# Altium footprint library 杂项库.PcbLib: 585 footprints (part 15 of 37)
Each footprint in its own frame and in the unit in brackets; x right, y up, seen from the top. Pads: shape width x height; smd on the part's side, far side on the other; paste and mask are expansions set on the pad; w line width, h text height; cw(c..) or ccw(c..) is an arc to the next point about the centre after c.
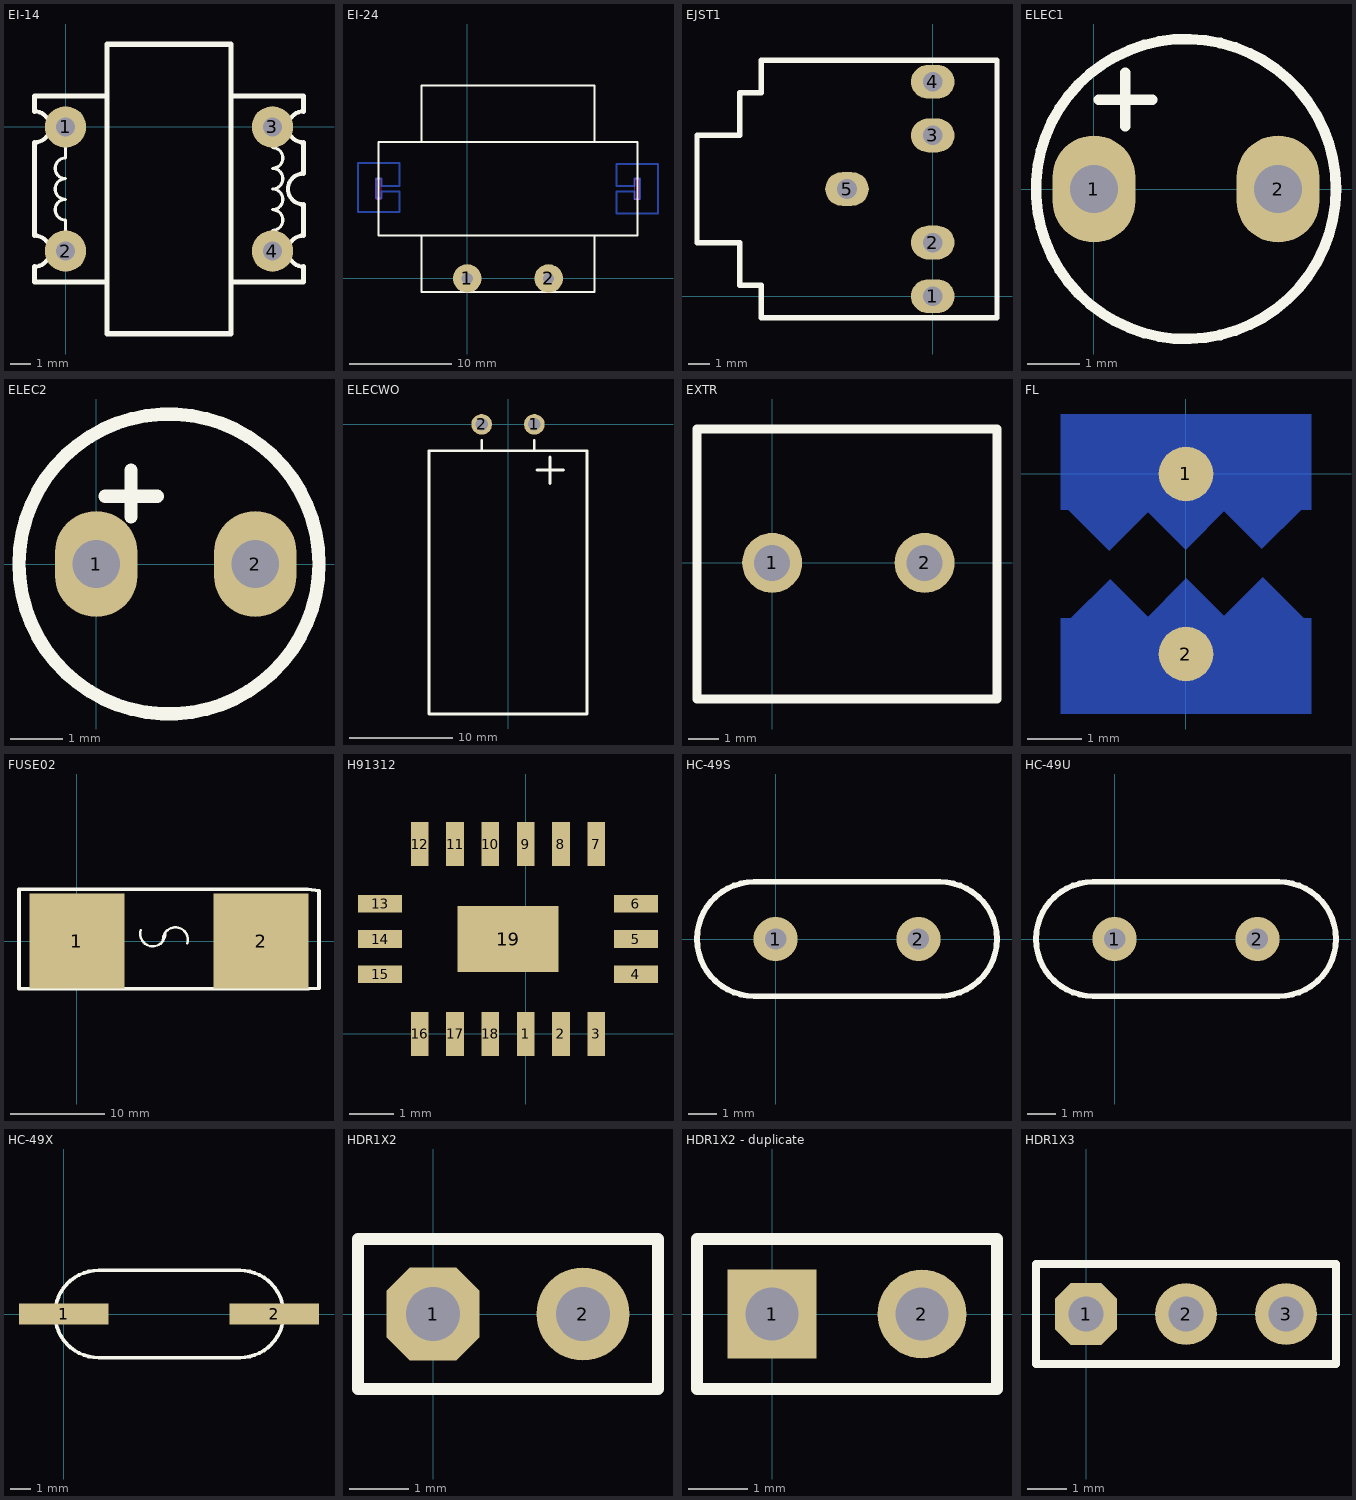
[diagram p14: the footprints below, top view; thin cyan lines are the x and y axes]

## EI-14 [mm]
pads (4):
  round 2 hole 0.93: 1(0,0) 2(0,-6) 3(10,0) 4(10,-6)
Top Overlay:
  lines w0.15: 0,-5.5 0,-5 0,-4.5 cw(c0,-4) 0,-3.5 cw(c0,-3) 0,-2.5 cw(c0,-2) 0,-1.5 0,-1 0,-0.5 ; 10,-5.5 10,-5 ccw(c10,-4.5) 10,-4 ccw(c10,-3.5) 10,-3 ccw(c10,-2.5) 10,-2 ccw(c10,-1.5) 10,-1 10,-0.5
  lines w0.2: -1.5,-6.75 ccw(c-1.5,-6) -1.5,-5.25 ; -1.5,-0.75 ccw(c-1.5,0) -1.5,0.75 ; 11.5,-6.75 cw(c11.5,-6) 11.5,-5.25 ; 11.5,-3.75 cw(c11.5,-3) 11.5,-2.25 ; 11.5,-0.75 cw(c11.5,0) 11.5,0.75
  lines w0.254: -1.5,-6.75 -1.5,-7.5 2,-7.5 ; -1.5,-5.25 -1.5,-0.75 ; -1.5,0.75 -1.5,1.5 2,1.5 ; 8,-7.5 11.5,-7.5 11.5,-6.75 ; 8,1.5 11.5,1.5 11.5,0.75 ; 11.5,-5.25 11.5,-3.75 ; 11.5,-2.25 11.5,-0.75 ; 2,-10 2,4 8,4 8,-10 2,-10

## EI-24 [mm]
pads (2):
  round 2.8 hole 1.1: 1(0,0) 2(8,0)
Bottom Layer:
  lines w0.2: -10.722,6.526 -6.658,6.526 -6.658,8.558 -8.436,8.558 -8.436,7.923 -8.944,7.923 -8.944,9.828 -8.436,9.828 -8.436,9.066 -6.658,9.066 -6.658,11.352 -10.722,11.352 -10.722,6.526 ; 14.678,6.399 18.742,6.399 18.742,11.225 14.678,11.225 14.678,9.066 16.456,9.066 16.456,9.828 16.964,9.828 16.964,7.796 16.456,7.796 16.456,8.558 14.678,8.558 14.678,6.399
Top Overlay:
  lines w0.2: -4.499,4.24 -4.499,-1.348 12.519,-1.348 12.519,4.24 ; -4.499,13.384 -4.499,18.972 12.519,18.972 12.519,13.384 ; -8.69,4.24 -8.69,13.384 16.71,13.384 16.71,4.24 -8.69,4.24
Keep-Out Layer:
  lines w0.05: -8.954,7.784 -8.446,7.784 -8.446,9.816 -8.954,9.816 -8.954,7.784 ; 16.446,7.784 16.954,7.784 16.954,9.816 16.446,9.816 16.446,7.784

## EJST1 [mil]
pads (5):
  oval 80x62 hole 36: 1(0,0) 2(0,98.42) 3(0,295.27) 4(0,393.7) 5(-157.48,196.85)
Top Overlay:
  lines w10: -433.07,98.42 -433.07,295.27 -354.33,295.27 -354.33,374.01 -314.96,374.01 -314.96,433.07 118.11,433.07 118.11,-39.37 -314.96,-39.37 -314.96,19.68 -354.33,19.68 -354.33,98.42 -433.07,98.42

## ELEC1 [mil]
pads (2):
  oval 62x80 hole 36: 1(0,0) 2(137.79,0)
Top Overlay:
  circle w7.87: c68.9,0 r112.2
  lines w7.87: 3.62,66.93 43.62,66.93 ; 23.62,46.93 23.62,86.93

## ELEC2 [mil]
pads (2):
  oval 62x80 hole 36: 1(0,0) 2(120,0)
Top Overlay:
  circle w10: c54.9,0 r113.14
  lines w10: 6.61,51.18 45.98,51.18 ; 26.3,35.43 26.3,70.87

## ELECWO [mm]
pads (2):
  round 2 hole 1.2: 1(2.54,0) 2(-2.54,0)
Top Overlay:
  lines w0.254: -2.54,-2.54 -2.54,-1.524 ; 2.54,-2.54 2.54,-1.524 ; -7.62,-27.94 7.62,-27.94 7.62,-2.54 -7.62,-2.54 -7.62,-27.94
  lines w0.305: 2.824,-4.394 5.364,-4.394 ; 4.064,-5.694 4.064,-3.154

## EXTR [mm]
pads (2):
  round 2 hole 1.2: 1(0,0) 2(5.08,0)
Top Overlay:
  lines w0.305: -2.508,-4.54 -2.508,4.46 7.492,4.46 7.492,-4.54 -2.508,-4.54

## FL [mm]
pads (2):
  round 1 all layers, no hole: 1(0,0) 2(0,-3.3)
Bottom Layer:
  region: -1.397,0.129 -2.171,-0.645 -1.406,-1.41 -0.632,-0.636
  region: 1.397,0.078 0.666,-0.653 1.393,-1.38 2.124,-0.649
  region: 2.3,1.1 -2.3,1.1 -2.3,-0.66 2.3,-0.66
  region: -0.025,0.205 -0.813,-0.583 -0.005,-1.391 0.783,-0.603
  region: 1.397,-3.429 2.171,-2.655 1.406,-1.89 0.632,-2.664
  region: -1.397,-3.378 -0.666,-2.647 -1.393,-1.92 -2.124,-2.651
  rectangle: -2.3,-4.4 2.3,-2.64
  region: 0.025,-3.505 0.813,-2.717 0.005,-1.909 -0.783,-2.697

## FUSE02 [mm]
pads (2):
  rect 10x10 smd: 1(0,0) 2(19.431,0)
Top Overlay:
  lines w0.254: 6.734,1.149 ccw(c7.999,0.762) 9.322,0.762 ; 9.068,0.127 cw(c10.391,0.127) 11.656,-0.26
  lines w0.381: -6.121,5.461 24.384,5.461 25.552,5.309 25.552,-4.978 24.46,-5.055 -6.121,-5.055 -6.121,5.486

## H91312 [mm]
pads (19):
  rect 0.4x1 all layers, no hole: 1(0,0) 2(0.8,0) 3(1.6,0) 7(1.6,4.3) 8(0.8,4.3) 9(0,4.3) 10(-0.8,4.3) 11(-1.6,4.3) 12(-2.4,4.3) 16(-2.4,0) 17(-1.6,0) 18(-0.8,0)
  rect 1x0.4 all layers, no hole: 4(2.5,1.35) 5(2.5,2.15) 6(2.5,2.95) 13(-3.3,2.95) 14(-3.3,2.15) 15(-3.3,1.35)
  rect 2.3x1.5 all layers, no hole: 19(-0.4,2.15)

## HC-49S [mil]
pads (2):
  round 62 hole 30: 1(0,0) 2(200,0)
Top Overlay:
  lines w8: -30,-80 cw(c-30,0) -30,80 230,80 cw(c230,0) 230,-80 -30,-80

## HC-49U [mil]
pads (2):
  round 62 hole 30: 1(0,0) 2(200,0)
Top Overlay:
  lines w8: -30,-80 cw(c-30,0) -30,80 230,80 cw(c230,0) 230,-80 -30,-80

## HC-49X [mm]
pads (2):
  rect 4.3x1 smd: 1(0,0) 2(10.135,0)
Top Overlay:
  lines w0.178: 1.68,-2.1 cw(c1.68,0) 1.68,2.1 8.48,2.1 cw(c8.48,0) 8.48,-2.1 1.68,-2.1

## HDR1X2 [mil]
pads (2):
  oct 62x62 hole 36: 1(0,0)
  round 62 hole 36: 2(100,0)
Top Overlay:
  lines w8: -50,-50 -50,50 150,50 150,-50 -50,-50

## HDR1X2 - duplicate [mm]
pads (2):
  rect 1.5x1.5 hole 0.9: 1(0,0)
  round 1.5 hole 0.9: 2(2.54,0)
Top Overlay:
  lines w0.2: -1.27,-1.27 3.81,-1.27 3.81,1.27 -1.27,1.27 -1.27,-1.27

## HDR1X3 [mil]
pads (3):
  oct 62x62 hole 35: 1(0,0)
  round 62 hole 35: 2(100,0) 3(200,0)
Top Overlay:
  lines w8: -50,-50 250,-50 250,50 -50,50 -50,-50